# Altium footprint library 16PF-026.PcbLib: 1 footprints
Each footprint in its own frame and in the unit in brackets; x right, y up, seen from the top. Pads: shape width x height; smd on the part's side, far side on the other; paste and mask are expansions set on the pad; w line width, h text height; cw(c..) or ccw(c..) is an arc to the next point about the centre after c.
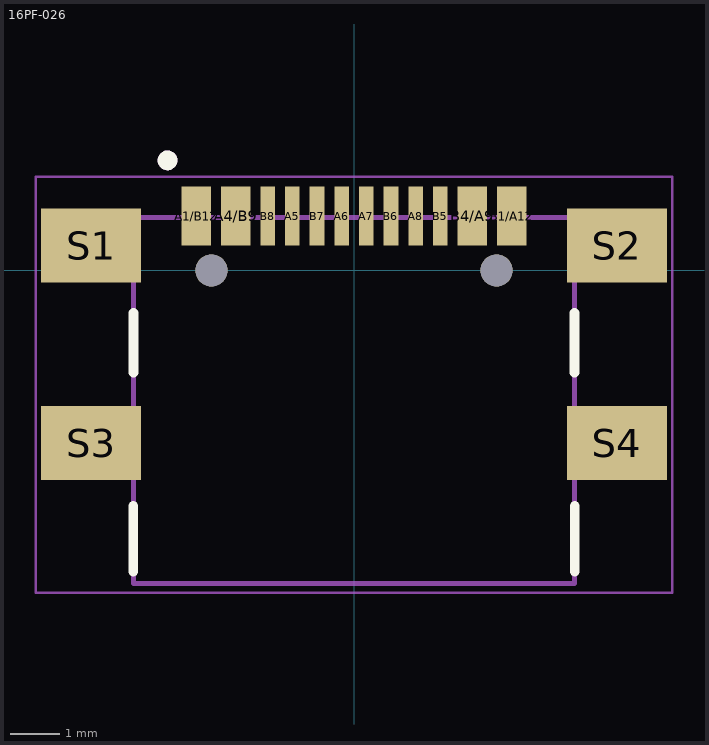
[diagram p0: the footprint, top view; thin cyan lines are the x and y axes]

## 16PF-026 [mm]
pads (18):
  rect 0.6x1.2 smd: A1/B12(-3.2,1.1) A4/B9(-2.4,1.1) B1/A12(3.2,1.1) B4/A9(2.4,1.1)
  rect 0.3x1.2 smd: A5(-1.25,1.1) A6(-0.25,1.1) A7(0.25,1.1) A8(1.25,1.1) B5(1.75,1.1) B6(0.75,1.1) B7(-0.75,1.1) B8(-1.75,1.1)
  rect 2.02x1.5 smd: S1(-5.33,0.5) S2(5.33,0.5) S3(-5.33,-3.5) S4(5.33,-3.5)
  round 0.65 hole 0.65 unplated: ""(-2.89,0) ""(2.89,0)
Top Overlay:
  circle w0.2: c-3.78,2.23 r0.1
  lines w0.2: -4.475,-6.1 -4.475,-4.775 ; -4.47,-2.07 -4.47,-0.86 ; 4.47,-2.07 4.47,-0.86 ; 4.475,-6.1 4.475,-4.775
Mechanical 13:
  circle w0.2: c-3.78,2.23 r0.1
  lines w0.1: -4.47,-6.35 4.47,-6.35 4.47,1.07 -4.47,1.07 -4.47,-6.35
Mechanical 15:
  lines w0.05: -6.45,-6.53 6.45,-6.53 6.45,1.9 -6.45,1.9 -6.45,-6.53
3D body "step_temp.STEP": height 3.26, standoff -0.63, extent -5.65,-6.35 5.65,1.35